# Altium footprint library RocketLib.PcbLib: 7 footprints
Each footprint in its own frame and in the unit in brackets; x right, y up, seen from the top. Pads: shape width x height; smd on the part's side, far side on the other; paste and mask are expansions set on the pad; w line width, h text height; cw(c..) or ccw(c..) is an arc to the next point about the centre after c.
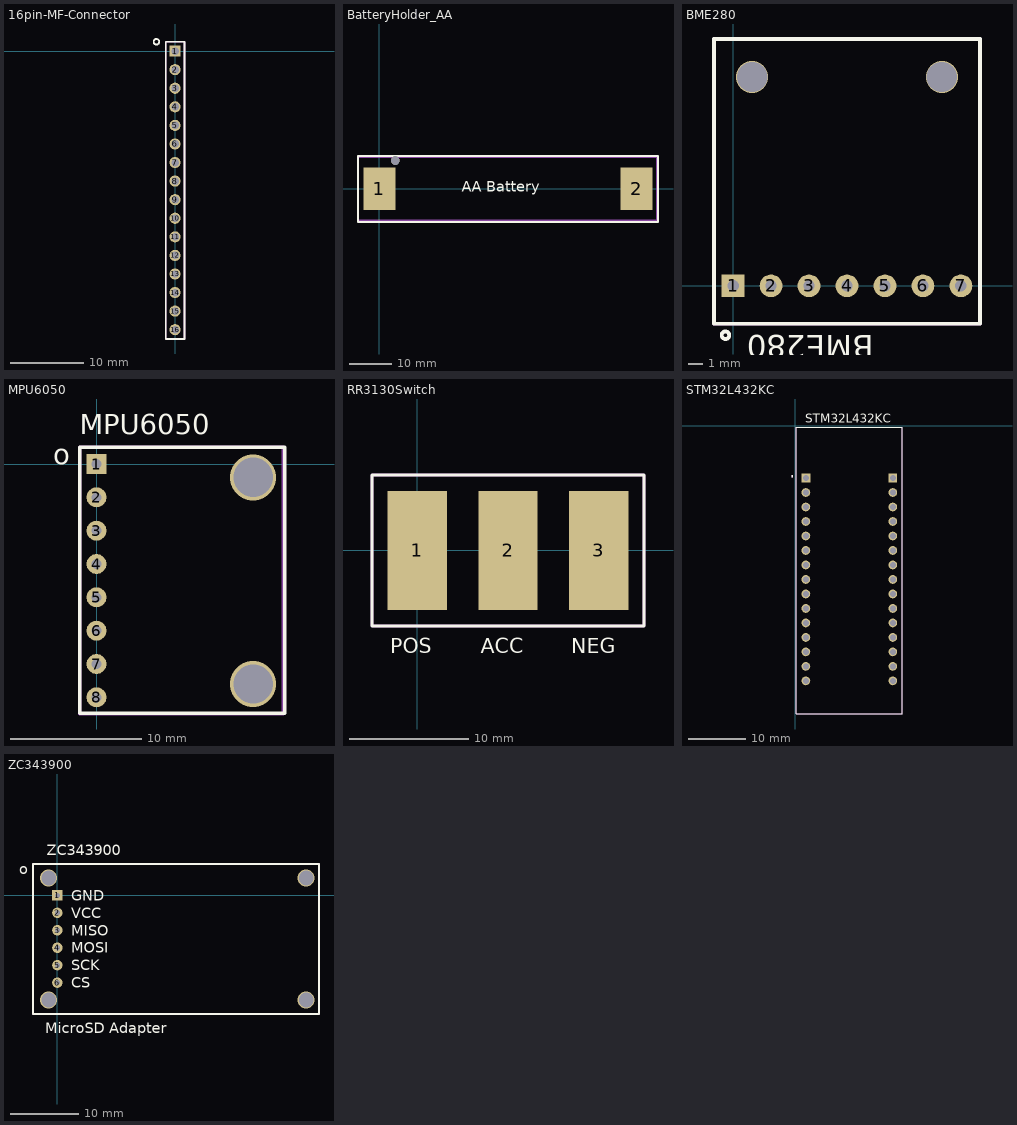
[diagram p0: the footprints below, top view; thin cyan lines are the x and y axes]

## 16pin-MF-Connector [mil]
pads (16):
  rect 60x60 hole 40.16: 1(0,0)
  round 60 hole 40.16: 2(0,-100) 3(0,-200) 4(0,-300) 5(0,-400) 6(0,-500) 7(0,-600) 8(0,-700) 9(0,-800) 10(0,-900) 11(0,-1000) 12(0,-1100) 13(0,-1200) 14(0,-1300) 15(0,-1400) 16(0,-1500)
Top Overlay:
  circle w10: c-100,50 r15
  lines w10: -50,-1550 50,-1550 50,50 -50,50 -50,-1550
Mechanical 13:
  lines w10: -50,-1550 -50,50 50,50 50,-1550 -50,-1550

## BatteryHolder_AA [mil]
height 787.4
pads (2):
  rect 300x400 smd: 1(0,0) 2(2411,0)
via 150,265 diameter 80 hole 80
Top Overlay:
  lines w20: -200,-310 2611,-310 2611,0 2611,306 -200,306 -200,0 -200,-310
  text "AA Battery" at 770,-26.68 h100
Mechanical 13:
  lines w20: -200,-300 2600,-300 2600,300 -200,300 -200,-300

## BME280 [mil]
pads (7):
  rect 60x60 hole 30: 1(0,0)
  round 60 hole 30: 2(100,0) 3(200,0) 4(300,0) 5(400,0) 6(500,0) 7(600,0)
via 50,550 diameter 85 hole 80
via 550,550 diameter 85 hole 80
Top Overlay:
  circle w10: c-20,-130 r10
  lines w10: -50,-100 -50,650 650,650 650,-100 -50,-100
  text "BME280" at 370,-130 h60
Mechanical 13:
  lines w10: -50,-100 650,-100 650,650 -50,650 -50,-100

## MPU6050 [mil]
pads (8):
  rect 60x60 hole 30: 1(0,0)
  round 60 hole 30: 2(0,-100) 3(0,-200) 4(0,-300) 5(0,-400) 6(0,-500) 7(0,-600) 8(0,-700)
via 470,-40 diameter 137.8 hole 118.11
via 470,-660 diameter 137.8 hole 118.11
Top Overlay:
  lines w10: 562.6,-747.68 -50,-747.68 -50,50 562.6,50 ; 565,-747.68 565,50
  text "MPU6050" at -50,90 h60
  text "o" at -130,0 h60
Mechanical 13:
  lines w10: -50,-750 -50,50 560,50 560,-750 -50,-750

## RR3130Switch [mm] "SWITCH ROCKER SPST 10A 125V"
pads (3):
  rect 5x10 smd: 1(0,0) 2(7.62,0) 3(15.24,0)
Top Overlay:
  lines w0.254: -3.81,-6.35 -3.81,6.35 19.05,6.35 19.05,-6.35 -3.81,-6.35
  text "ACC" at 5.334,-8.636 h1.27
  text "NEG" at 12.954,-8.636 h1.27
  text "POS" at -2.286,-8.636 h1.27
Mechanical 13:
  lines w0.254: -3.81,-6.35 19.05,-6.35 19.05,6.35 -3.81,6.35 -3.81,-6.35

## STM32L432KC [mm]
pads (30):
  rect 1.53x1.53 hole 1.02: CN3_1(1.905,-9.185) CN4_1(17.145,-9.185)
  round 1.53 hole 1.02: CN3_2(1.905,-11.725) CN3_3(1.905,-14.265) CN3_4(1.905,-16.805) CN3_5(1.905,-19.345) CN3_6(1.905,-21.885) CN3_7(1.905,-24.425) CN3_8(1.905,-26.965) CN3_9(1.905,-29.505) CN3_10(1.905,-32.045) CN3_11(1.905,-34.585) CN3_12(1.905,-37.125) CN3_13(1.905,-39.665) CN3_14(1.905,-42.205) CN3_15(1.905,-44.745) CN4_2(17.145,-11.725) CN4_3(17.145,-14.265) CN4_4(17.145,-16.805) CN4_5(17.145,-19.345) CN4_6(17.145,-21.885) CN4_7(17.145,-24.425) CN4_8(17.145,-26.965) CN4_9(17.145,-29.505) CN4_10(17.145,-32.045) CN4_11(17.145,-34.585) CN4_12(17.145,-37.125) CN4_13(17.145,-39.665) CN4_14(17.145,-42.205) CN4_15(17.145,-44.745)
Top Overlay:
  circle w0.2: c-0.475,-8.9 r0.1
  lines w0.127: 0.255,-50.545 0.255,-0.255 18.795,-0.255 18.795,-50.545 0.255,-50.545
  text "STM32L432KC" at 1.778,0.508 h1.52
Mechanical 13:
  circle w0.2: c-0.475,-8.9 r0.1
  lines w0.127: 0.255,-50.545 18.795,-50.545 18.795,-0.255 0.255,-0.255 0.255,-50.545

## ZC343900 [mil] "MicroSD Adapter"
pads (6):
  rect 60x60 hole 30: 1(0,0)
  round 60 hole 30: 2(0,-100) 3(0,-200) 4(0,-300) 5(0,-400) 6(0,-500)
via -50,-600 diameter 96.46 hole 84.65
via -50,100 diameter 96.46 hole 84.65
via 1426.38,100 diameter 96.46 hole 84.65
via 1426.38,-600 diameter 96.46 hole 84.65
Top Overlay:
  lines w10: -140,180 -140,-680 1500,-680 1500,180 -120,180 ; -140,180 -140,180 ; -140,180 -120,180 ; -120,180 -120,180
  text "o" at -220,120 h60
  text "GND" at 80,-30 h60
  text "VCC" at 80,-130 h60
  text "MISO" at 80,-230 h60
  text "MOSI" at 80,-330 h60
  text "SCK" at 80,-430 h60
  text "CS" at 80,-530 h60
  text "ZC343900" at -60,230 h60
  text "MicroSD Adapter" at -70,-790.01 h60
Mechanical 13:
  lines w10: -140,-680 1500,-680 1500,180 -140,180 -140,-680